# Altium footprint library Connector2_3.5mm_puissance.PcbLib: 1 footprints
Each footprint in its own frame and in the unit in brackets; x right, y up, seen from the top. Pads: shape width x height; smd on the part's side, far side on the other; paste and mask are expansions set on the pad; w line width, h text height; cw(c..) or ccw(c..) is an arc to the next point about the centre after c.
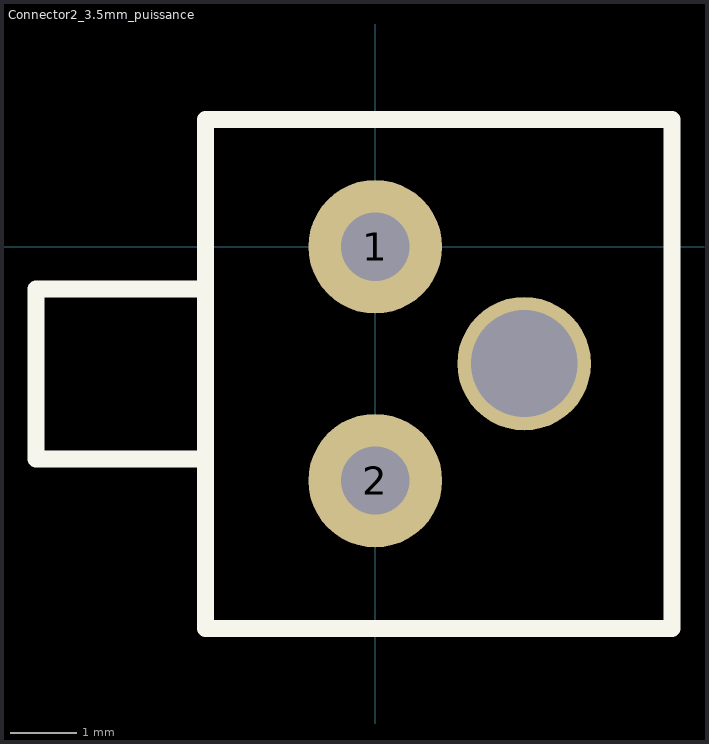
[diagram p0: the footprint, top view; thin cyan lines are the x and y axes]

## Connector2_3.5mm_puissance [mm]
pads (3):
  round 2 hole 1.02: 1(0,0) 2(0,-3.5)
  round 2 hole 1.6: ""(2.23,-1.75)
Top Overlay:
  lines w0.254: -2.54,-3.175 -5.08,-3.175 -5.08,-0.635 -2.54,-0.635 ; -2.54,-5.715 -2.54,-5.207 -2.54,1.27 -2.54,1.905 4.445,1.905 4.445,-5.207 4.445,-5.715 -2.54,-5.715